# Altium schematic symbol library ERA-6AEB105V.SchLib: 2 symbols
Pins are listed as number, name and electrical type; pins without a type are passive.

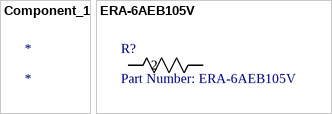
[diagram p0: symbols Component_1 to ERA-6AEB105V]

## Component_1
designator *

## ERA-6AEB105V
designator R?, comment Part Number: ERA-6AEB105V
No Description Available; Vendor: Panasonic; Built_By: EMA_UL_Team; Manufacturer_Part_Number: ERA-6AEB105V; Copyright: Copyright (C) 2018 Accelerated Designs. All rights reserved; RefDes: RefDes; Type: DEV; Value: Value
footprint RC0805N
pins: 1, 2